# EAGLE library part AO6602 (library RitLaunchInitiative)
http://aosmd.com/res/data_sheets/AO6602.pdf
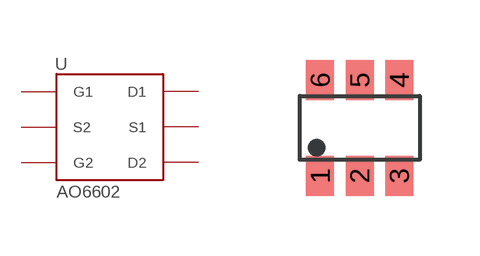
[diagram p8: symbol with the pads of TSOP-6; footprint TSOP-6]

Designator prefix -

## AO6602 (DIGI: 785-1077-1-ND; MPN: AO6602L)  [TSOP-6]
1  G1
2  S2
3  G2
4  D2
5  S1
6  D1

## Footprint TSOP-6 (pad centres in mm)
smd 0.7 x 1: 1 -0.99,-1.2; 2 0,-1.2; 3 0.99,-1.2; 4 0.99,1.2; 5 0,1.2; 6 -0.99,1.2